# Altium schematic symbol library WE-MAPI_3015.SchLib: 10 symbols
Pins are listed as number, name and electrical type; pins without a type are passive.

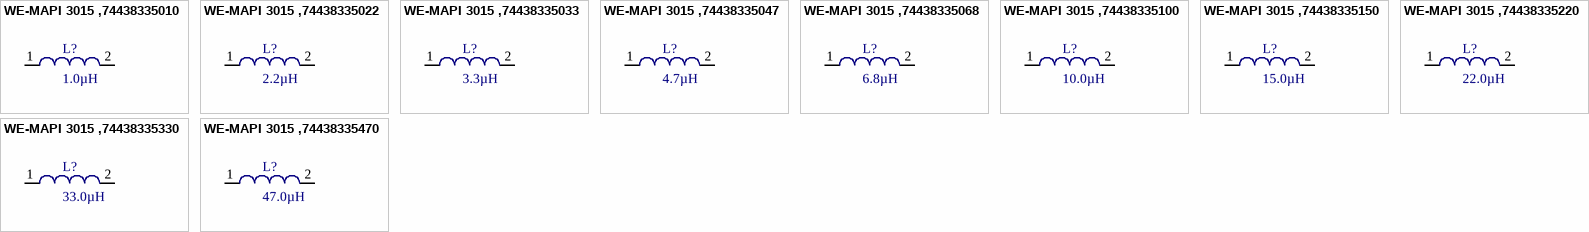
[diagram p0: symbols WE-MAPI 3015 ,74438335010 to WE-MAPI 3015 ,74438335470]

## WE-MAPI 3015 ,74438335010
designator L?, comment 1.0µH
Power Multilayer Inductor WE-MAPI, L=1.0µH; partNo: 74438335010; Manufacturer: Würth Elektronik eiSos GmbH; Inductance: 1.0µH; ComponentLink1Description: Manufacturer; ComponentLink1URL: http://www.we-online.de; Created by: Otto Christin; Created Date: Nov 2013; ComponentLink2Description: Datasheet; ComponentLink2URL: http://katalog.we-online.de/kataloge/eisos/media/pdf/74438335010.pdf
footprint SMD 3015 (Chip Inductor, 2-Leads, Body 3.0x3.0mm, IPC Medium Density)
pins: 1, 2

## WE-MAPI 3015 ,74438335022
designator L?, comment 2.2µH
Power Multilayer Inductor WE-MAPI, L=2.2µH; partNo: 74438335022; Manufacturer: Würth Elektronik eiSos GmbH; Inductance: 2.2µH; ComponentLink1Description: Manufacturer; ComponentLink1URL: http://www.we-online.de; Created by: Otto Christin; Created Date: Nov 2013; ComponentLink2Description: Datasheet; ComponentLink2URL: http://katalog.we-online.de/kataloge/eisos/media/pdf/74438335022.pdf
footprint SMD 3015 (Chip Inductor, 2-Leads, Body 3.0x3.0mm, IPC Medium Density)
pins: 1, 2

## WE-MAPI 3015 ,74438335033
designator L?, comment 3.3µH
Power Multilayer Inductor WE-MAPI, L=3.3µH; partNo: 74438335033; Manufacturer: Würth Elektronik eiSos GmbH; Inductance: 3.3µH; ComponentLink1Description: Manufacturer; ComponentLink1URL: http://www.we-online.de; Created by: Otto Christin; Created Date: Nov 2013; ComponentLink2Description: Datasheet; ComponentLink2URL: http://katalog.we-online.de/kataloge/eisos/media/pdf/74438335033.pdf
footprint SMD 3015 (Chip Inductor, 2-Leads, Body 3.0x3.0mm, IPC Medium Density)
pins: 1, 2

## WE-MAPI 3015 ,74438335047
designator L?, comment 4.7µH
Power Multilayer Inductor WE-MAPI, L=4.7µH; partNo: 74438335047; Manufacturer: Würth Elektronik eiSos GmbH; Inductance: 4.7µH; ComponentLink1Description: Manufacturer; ComponentLink1URL: http://www.we-online.de; Created by: Otto Christin; Created Date: Nov 2013; ComponentLink2Description: Datasheet; ComponentLink2URL: http://katalog.we-online.de/kataloge/eisos/media/pdf/74438335047.pdf
footprint SMD 3015 (Chip Inductor, 2-Leads, Body 3.0x3.0mm, IPC Medium Density)
pins: 1, 2

## WE-MAPI 3015 ,74438335068
designator L?, comment 6.8µH
Power Multilayer Inductor WE-MAPI, L=6.8µH; partNo: 74438335068; Manufacturer: Würth Elektronik eiSos GmbH; Inductance: 6.8µH; ComponentLink1Description: Manufacturer; ComponentLink1URL: http://www.we-online.de; Created by: Otto Christin; Created Date: Nov 2013; ComponentLink2Description: Datasheet; ComponentLink2URL: http://katalog.we-online.de/kataloge/eisos/media/pdf/74438335068.pdf
footprint SMD 3015 (Chip Inductor, 2-Leads, Body 3.0x3.0mm, IPC Medium Density)
pins: 1, 2

## WE-MAPI 3015 ,74438335100
designator L?, comment 10.0µH
Power Multilayer Inductor WE-MAPI, L=10.0µH; partNo: 74438335100; Manufacturer: Würth Elektronik eiSos GmbH; Inductance: 10.0µH; ComponentLink1Description: Manufacturer; ComponentLink1URL: http://www.we-online.de; Created by: Otto Christin; Created Date: Nov 2013; ComponentLink2Description: Datasheet; ComponentLink2URL: http://katalog.we-online.de/kataloge/eisos/media/pdf/74438335100.pdf
footprint SMD 3015 (Chip Inductor, 2-Leads, Body 3.0x3.0mm, IPC Medium Density)
pins: 1, 2

## WE-MAPI 3015 ,74438335150
designator L?, comment 15.0µH
Power Multilayer Inductor WE-MAPI, L=15.0µH; partNo: 74438335150; Manufacturer: Würth Elektronik eiSos GmbH; Inductance: 15.0µH; ComponentLink1Description: Manufacturer; ComponentLink1URL: http://www.we-online.de; Created by: Otto Christin; Created Date: Nov 2013; ComponentLink2Description: Datasheet; ComponentLink2URL: http://katalog.we-online.de/kataloge/eisos/media/pdf/74438335150.pdf
footprint SMD 3015 (Chip Inductor, 2-Leads, Body 3.0x3.0mm, IPC Medium Density)
pins: 1, 2

## WE-MAPI 3015 ,74438335220
designator L?, comment 22.0µH
Power Multilayer Inductor WE-MAPI, L=22.0µH; partNo: 74438335220; Manufacturer: Würth Elektronik eiSos GmbH; Inductance: 22.0µH; ComponentLink1Description: Manufacturer; ComponentLink1URL: http://www.we-online.de; Created by: Otto Christin; Created Date: Nov 2013; ComponentLink2Description: Datasheet; ComponentLink2URL: http://katalog.we-online.de/kataloge/eisos/media/pdf/74438335220.pdf
footprint SMD 3015 (Chip Inductor, 2-Leads, Body 3.0x3.0mm, IPC Medium Density)
pins: 1, 2

## WE-MAPI 3015 ,74438335330
designator L?, comment 33.0µH
Power Multilayer Inductor WE-MAPI, L=33.0µH; partNo: 74438335330; Manufacturer: Würth Elektronik eiSos GmbH; Inductance: 33.0µH; ComponentLink1Description: Manufacturer; ComponentLink1URL: http://www.we-online.de; Created by: Otto Christin; Created Date: Nov 2013; ComponentLink2Description: Datasheet; ComponentLink2URL: http://katalog.we-online.de/kataloge/eisos/media/pdf/74438335330.pdf
footprint SMD 3015 (Chip Inductor, 2-Leads, Body 3.0x3.0mm, IPC Medium Density)
pins: 1, 2

## WE-MAPI 3015 ,74438335470
designator L?, comment 47.0µH
Power Multilayer Inductor WE-MAPI, L=47.0µH; partNo: 74438335470; Manufacturer: Würth Elektronik eiSos GmbH; Inductance: 47.0µH; ComponentLink1Description: Manufacturer; ComponentLink1URL: http://www.we-online.de; Created by: Otto Christin; Created Date: Nov 2013; ComponentLink2Description: Datasheet; ComponentLink2URL: http://katalog.we-online.de/kataloge/eisos/media/pdf/74438335470.pdf
footprint SMD 3015 (Chip Inductor, 2-Leads, Body 3.0x3.0mm, IPC Medium Density)
pins: 1, 2